# Altium footprint library VoltageRegulator.PcbLib: 11 footprints
Each footprint in its own frame and in the unit in brackets; x right, y up, seen from the top. Pads: shape width x height; smd on the part's side, far side on the other; paste and mask are expansions set on the pad; w line width, h text height; cw(c..) or ccw(c..) is an arc to the next point about the centre after c.
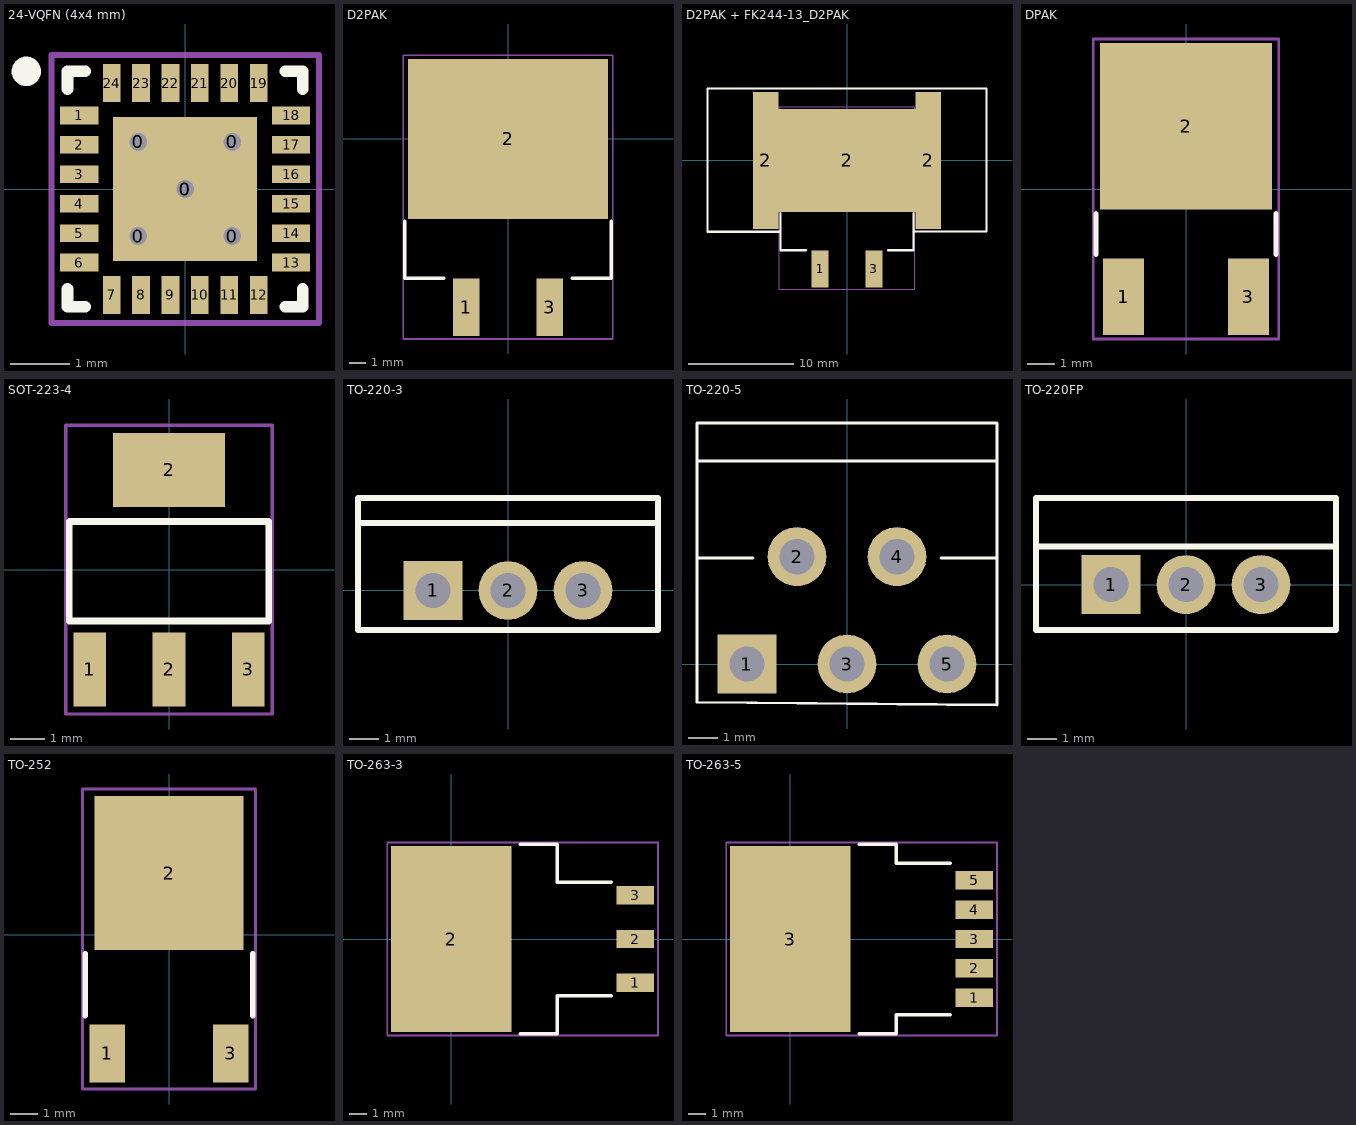
[diagram p0: the footprints below, top view; thin cyan lines are the x and y axes]

## 24-VQFN (4x4 mm) [mm]
pads (30):
  round 0.7 hole 0.3 paste+0: 0(-0.8,-0.8) 0(-0.8,0.8) 0(0,0) 0(0.8,-0.8) 0(0.8,0.8)
  rect 2.45x2.45 smd: 0(0,0)
  rect 0.65x0.3 smd: 1(-1.8,1.25) 2(-1.8,0.75) 3(-1.8,0.25) 4(-1.8,-0.25) 5(-1.8,-0.75) 6(-1.8,-1.25) 13(1.8,-1.25) 14(1.8,-0.75) 15(1.8,-0.25) 16(1.8,0.25) 17(1.8,0.75) 18(1.8,1.25)
  rect 0.3x0.65 smd: 7(-1.25,-1.8) 8(-0.75,-1.8) 9(-0.25,-1.8) 10(0.25,-1.8) 11(0.75,-1.8) 12(1.25,-1.8) 19(1.25,1.8) 20(0.75,1.8) 21(0.25,1.8) 22(-0.25,1.8) 23(-0.75,1.8) 24(-1.25,1.8)
Top Overlay:
  circle w0.25: c-2.7,2 r0.125
  lines w0.2: -2,-1.7 -2,-2 -1.7,-2 ; -2,1.7 -2,2 -1.7,2 ; 1.7,-2 2,-2 2,-1.7 ; 1.7,2 2,2 2,1.7
Border:
  lines w0.1: -0.5,0 0.5,0 ; 0,-0.5 0,0.5 ; -2.275,-2.275 2.275,-2.275 2.275,2.275 -2.275,2.275 -2.275,-2.275
3D body "User Library-QFN24.STEP": height 0.9, standoff 0, extent -2.005,-2.005 2.005,2.005

## D2PAK [mm]
pads (3):
  rect 1.6x3.5 smd: 1(-2.54,-10.27) 3(2.54,-10.27)
  rect 12.2x9.75 smd: 2(0,0)
Top Overlay:
  lines w0.2: -6.3,-5 -6.3,-8.5 -3.9,-8.5 ; 3.9,-8.5 6.3,-8.5 6.3,-5
Border:
  lines w0.1: -6.4,-12.2 6.4,-12.2 6.4,5.1 -6.4,5.1 -6.4,-12.2
3D body "User Library-DPAK.STEP": height 4.98, standoff -0.03, extent -5.08,-11.216 5.08,4.048

## D2PAK + FK244-13_D2PAK [mm]
pads (5):
  rect 1.6x3.5 smd: 1(-2.54,-10.27) 3(2.54,-10.27)
  rect 2.4x13 smd: 2(-7.7,0) 2(7.7,0)
  rect 13.5x9.75 smd: 2(0,0)
Top Overlay:
  lines w0.2: -6.3,-6.75 -13.2,-6.75 -13.2,6.8 13.2,6.8 13.2,-6.699 6.3,-6.75 ; -6.3,-5 -6.3,-8.5 -3.9,-8.5 ; 3.9,-8.5 6.3,-8.5 6.3,-5
Border:
  lines w0.1: -6.4,-12.2 6.4,-12.2 6.4,5.1 -6.4,5.1 -6.4,-12.2
3D body "Радиатор FK 244 13 D2 PAK.stp": height 10, standoff 0, extent -13,-6.5 13,6.5
3D body "User Library-DPAK.STEP": height 4.98, standoff -0.03, extent -5.08,-11.216 5.08,4.048

## DPAK [mm]
pads (3):
  rect 1.5x2.8 smd: 1(-2.286,-3.95) 3(2.286,-3.95)
  rect 6.3x6.1 smd: 2(0,2.3)
Top Overlay:
  lines w0.2: -3.3,-2.4 -3.3,-0.9 ; 3.3,-2.4 3.3,-0.9
Border:
  lines w0.1: -3.4,-5.5 -3.4,5.5 3.4,5.5 3.4,-5.5 -3.4,-5.5
3D body "User Library-DPAK-1.STEP": height 2.34, standoff -0.07, extent -3.27,-4.911 3.27,5.028

## SOT-223-4 [mm]
pads (4):
  rect 0.95x2.15 smd: 1(-2.3,-2.9) 2(0,-2.9) 3(2.3,-2.9)
  rect 3.25x2.15 smd: 2(0,2.9)
Top Overlay:
  lines w0.2: -2.9,-1.5 -2.9,1.4 2.9,1.4 2.9,-1.5 -2.9,-1.5
Border:
  lines w0.1: -3,-4.2 -3,4.2 3,4.2 3,-4.2 -3,-4.2
3D body "ALSRobot-SOT-223.STEP": height 1.64, standoff -0.01, extent -3.25,-3.5 3.25,3.5

## TO-220-3 [mm]
pads (3):
  rect 2x2 hole 1.2: 1(-2.55,0)
  round 2 hole 1.2: 2(0,0) 3(2.55,0)
Top Overlay:
  lines w0.2: -5.1,2.3 5.1,2.3 ; -5.1,-1.35 -5.1,3.15 5.1,3.15 5.1,-1.35 -5.1,-1.35
Border:
  lines w0.1: -5.1,-1.4 -5.1,3.2 ; -5.1,-1.4 5.1,-1.4 ; -5.1,-1.4 -5.1,3.2 ; -5.1,-1.4 5.1,-1.4 ; -5.1,3.2 5.1,3.2 ; -5.1,3.2 5.1,3.2 ; 5.1,-1.4 5.1,3.2 ; 5.1,-1.4 5.1,3.2
3D body "CircuitWorks-TO-220HS.STEP": height 20.54, standoff -1.81, extent -5.09,-1.397 5.07,3.175

## TO-220-5 [mm]
pads (5):
  rect 2x2 hole 1.2: 1(-3.4,0)
  round 2 hole 1.2: 2(-1.7,3.65) 3(0,0) 4(1.7,3.65) 5(3.4,0)
Top Overlay:
  lines w0.1: -5.1,3.9 -5.1,-1.3 5.1,-1.4 5.1,3.9 ; -5.1,6.9 5.1,6.9 ; -3.2,3.6 -5.1,3.6 -5.1,8.2 5.1,8.2 5.1,3.6 3.2,3.6
3D body "User Library-TO220-5.STEP": height 22.35, standoff -1.64, extent -5.08,-0.183 5.08,8.057

## TO-220FP [mm]
pads (3):
  rect 2x2 hole 1.2: 1(-2.55,0)
  round 2 hole 1.2: 2(0,0) 3(2.55,0)
Top Overlay:
  lines w0.2: -5.1,1.3 5.1,1.3 ; -5.1,-1.55 5.1,-1.55 5.1,2.95 -5.1,2.95 -5.1,-1.55
Border:
  lines w0.1: -5.1,-1.6 -5.1,3 5.1,3 5.1,-1.6 -5.1,-1.6
3D body "User Library-2STP535FP Transistors Darlingtons PNP TO-220FP.STEP": height 26.15, standoff -3.45, extent -5.09,-1.543 5.09,2.977

## TO-252 [mm]
pads (3):
  rect 1.3x2.15 smd: 1(-2.285,-4.38) 3(2.285,-4.38)
  rect 5.5x5.7 smd: 2(0,2.285)
Top Overlay:
  lines w0.2: -3.1,-3 -3.1,-0.7 ; 3.1,-3 3.1,-0.7
Border:
  lines w0.1: -3.2,-5.7 -3.2,5.4 3.2,5.4 3.2,-5.7 -3.2,-5.7
3D body "User Library-DPAK_TO-252AA.STEP": height 2.37, standoff -0.03, extent -3.367,-5.198 3.367,4.902

## TO-263-3 [mm]
pads (4):
  rect 2.16x1.07 smd: 1(10.675,-2.54) 2(10.675,0) 3(10.675,2.54)
  rect 7x10.8 smd: 2(0,0)
Top Overlay:
  lines w0.2: 4,-5.5 6.16,-5.5 6.16,-3.3 9.3,-3.3 ; 4,5.5 6.16,5.5 6.16,3.3 9.3,3.3
Border:
  lines w0.1: -3.7,-5.6 -3.7,5.6 12,5.6 12,-5.6 -3.7,-5.6
3D body "User Library-TO-263-3.STEP": height 4.6, standoff 0, extent -3.4,-5.15 11.7,5.15

## TO-263-5 [mm]
pads (6):
  rect 2.16x1.07 smd: 1(10.675,-3.4) 2(10.675,-1.7) 3(10.675,0) 4(10.675,1.7) 5(10.675,3.4)
  rect 7x10.8 smd: 3(0,0)
Top Overlay:
  lines w0.2: 4,-5.5 6.16,-5.5 6.16,-4.4 9.3,-4.4 ; 4,5.5 6.16,5.5 6.16,4.4 9.3,4.4
Border:
  lines w0.1: -3.7,-5.6 -3.7,5.6 12,5.6 12,-5.6 -3.7,-5.6
3D body "User Library-TO-263BA.STEP": height 4.38, standoff 0, extent -2.894,-5.112 11.152,5.112